# EAGLE library part FT2232HQ (library My_Library_RADAR)
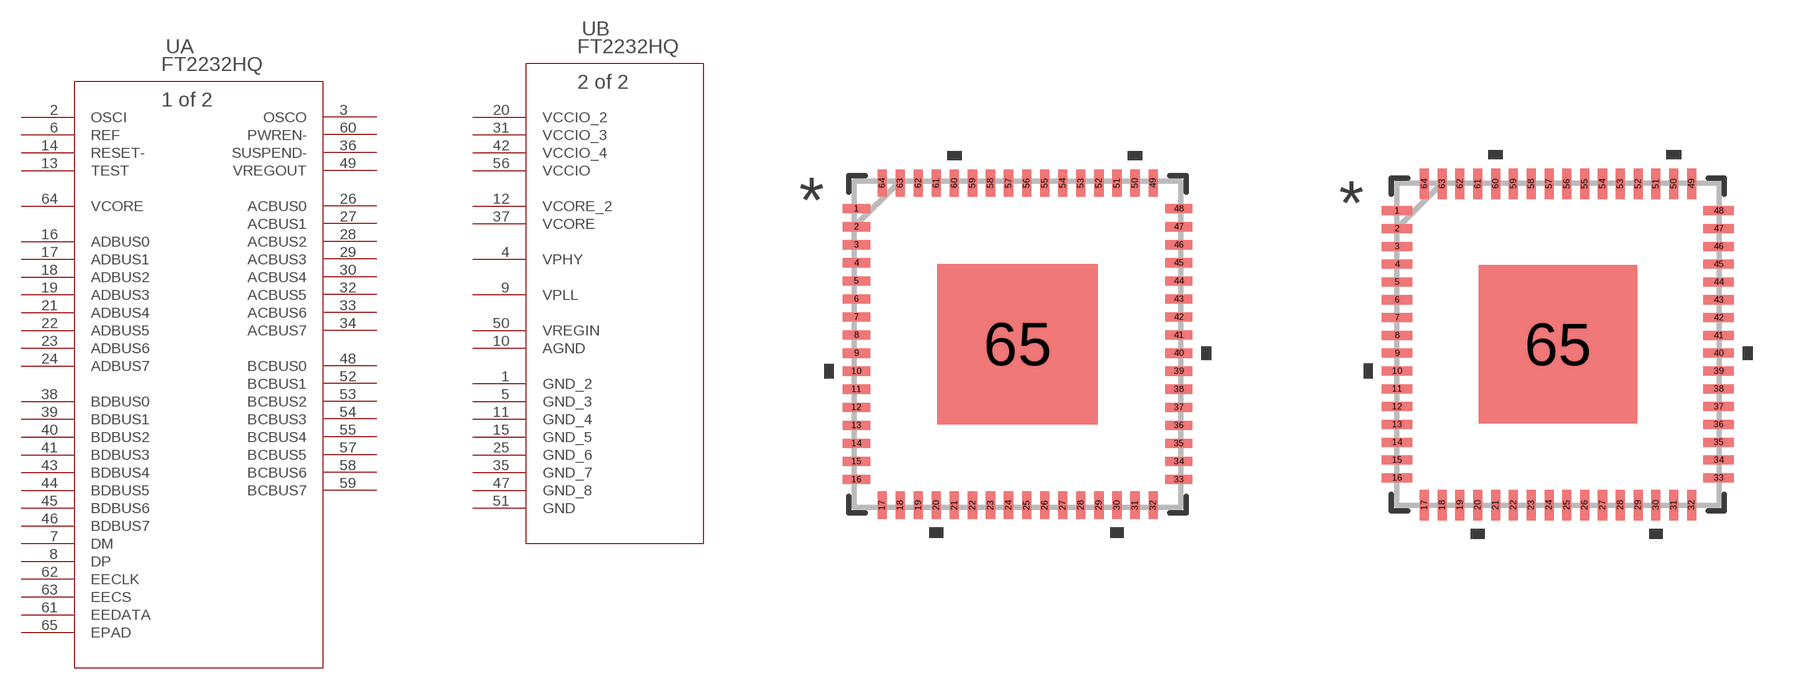
[diagram p9: symbol with the pads of 64QFN_FT2232HQ_FTD; footprints 64QFN_FT2232HQ_FTD, 64QFN_FT2232HQ_FTD-M]

Designator prefix U; gates A=FT2232HQ B=FT2232HQ_A

## FT2232HQ (COPYRIGHT: Copyright (C) 2025 Ultra Librarian. All rights reserved.; MANUFACTURER_PART_NUMBER: FT2232HQ; MFR_NAME: FTDI, Future Technology Devices International Ltd)  [64QFN_FT2232HQ_FTD]
1  B:GND_2  pas
2  A:OSCI  in
3  A:OSCO  out
4  B:VPHY  pwr
5  B:GND_3  pas
6  A:REF  in
7  A:DM
8  A:DP
9  B:VPLL  pwr
10  B:AGND  pas
11  B:GND_4  pas
12  B:VCORE_2  pwr
13  A:TEST  in
14  A:RESET-  in
15  B:GND_5  pas
16  A:ADBUS0
17  A:ADBUS1
18  A:ADBUS2
19  A:ADBUS3
20  B:VCCIO_2  pwr
21  A:ADBUS4
22  A:ADBUS5
23  A:ADBUS6
24  A:ADBUS7
25  B:GND_6  pas
26  A:ACBUS0
27  A:ACBUS1
28  A:ACBUS2
29  A:ACBUS3
30  A:ACBUS4
31  B:VCCIO_3  pwr
32  A:ACBUS5
33  A:ACBUS6
34  A:ACBUS7
35  B:GND_7  pas
36  A:SUSPEND-  out
37  B:VCORE  pwr
38  A:BDBUS0
39  A:BDBUS1
40  A:BDBUS2
41  A:BDBUS3
42  B:VCCIO_4  pwr
43  A:BDBUS4
44  A:BDBUS5
45  A:BDBUS6
46  A:BDBUS7
47  B:GND_8  pas
48  A:BCBUS0
49  A:VREGOUT  pwr
50  B:VREGIN  pwr
51  B:GND  pas
52  A:BCBUS1
53  A:BCBUS2
54  A:BCBUS3
55  A:BCBUS4
56  B:VCCIO  pwr
57  A:BCBUS5
58  A:BCBUS6
59  A:BCBUS7
60  A:PWREN-  out
61  A:EEDATA
62  A:EECLK
63  A:EECS
64  A:VCORE  in
65  A:EPAD  pas

## FT2232HQ64QFN_FT2232HQ_FTD-M (COPYRIGHT: Copyright (C) 2025 Ultra Librarian. All rights reserved.; MANUFACTURER_PART_NUMBER: FT2232HQ; MFR_NAME: FTDI, Future Technology Devices International Ltd)  [64QFN_FT2232HQ_FTD-M]
Pads as for 64QFN_FT2232HQ_FTD

## FT2232HQ64QFN_FT2232HQ_FTD-L (COPYRIGHT: Copyright (C) 2025 Ultra Librarian. All rights reserved.; MANUFACTURER_PART_NUMBER: FT2232HQ; MFR_NAME: FTDI, Future Technology Devices International Ltd)  [64QFN_FT2232HQ_FTD-L]
Pads as for 64QFN_FT2232HQ_FTD

## Footprint 64QFN_FT2232HQ_FTD (pad centres in mm)
smd 0.755 x 0.254: 1 -4.461,3.75; 2 -4.461,3.25; 3 -4.461,2.75; 4 -4.461,2.25; 5 -4.461,1.75; 6 -4.461,1.25; 7 -4.461,0.75; 8 -4.461,0.25; 9 -4.461,-0.25; 10 -4.461,-0.75; 11 -4.461,-1.25; 12 -4.461,-1.75; 13 -4.461,-2.25; 14 -4.461,-2.75; 15 -4.461,-3.25; 16 -4.461,-3.75; 33 4.461,-3.75; 34 4.461,-3.25; 35 4.461,-2.75; 36 4.461,-2.25; 37 4.461,-1.75; 38 4.461,-1.25; 39 4.461,-0.75; 40 4.461,-0.25; 41 4.461,0.25; 42 4.461,0.75; 43 4.461,1.25; 44 4.461,1.75; 45 4.461,2.25; 46 4.461,2.75; 47 4.461,3.25; 48 4.461,3.75
smd 0.254 x 0.755: 17 -3.75,-4.461; 18 -3.25,-4.461; 19 -2.75,-4.461; 20 -2.25,-4.461; 21 -1.75,-4.461; 22 -1.25,-4.461; 23 -0.75,-4.461; 24 -0.25,-4.461; 25 0.25,-4.461; 26 0.75,-4.461; 27 1.25,-4.461; 28 1.75,-4.461; 29 2.25,-4.461; 30 2.75,-4.461; 31 3.25,-4.461; 32 3.75,-4.461; 49 3.75,4.461; 50 3.25,4.461; 51 2.75,4.461; 52 2.25,4.461; 53 1.75,4.461; 54 1.25,4.461; 55 0.75,4.461; 56 0.25,4.461; 57 -0.25,4.461; 58 -0.75,4.461; 59 -1.25,4.461; 60 -1.75,4.461; 61 -2.25,4.461; 62 -2.75,4.461; 63 -3.25,4.461; 64 -3.75,4.461
smd 4.445 x 4.445: 65 0,0

## Footprint 64QFN_FT2232HQ_FTD-M (pad centres in mm)
smd 0.856 x 0.254: 1 -4.512,3.75; 2 -4.512,3.25; 3 -4.512,2.75; 4 -4.512,2.25; 5 -4.512,1.75; 6 -4.512,1.25; 7 -4.512,0.75; 8 -4.512,0.25; 9 -4.512,-0.25; 10 -4.512,-0.75; 11 -4.512,-1.25; 12 -4.512,-1.75; 13 -4.512,-2.25; 14 -4.512,-2.75; 15 -4.512,-3.25; 16 -4.512,-3.75; 33 4.512,-3.75; 34 4.512,-3.25; 35 4.512,-2.75; 36 4.512,-2.25; 37 4.512,-1.75; 38 4.512,-1.25; 39 4.512,-0.75; 40 4.512,-0.25; 41 4.512,0.25; 42 4.512,0.75; 43 4.512,1.25; 44 4.512,1.75; 45 4.512,2.25; 46 4.512,2.75; 47 4.512,3.25; 48 4.512,3.75
smd 0.254 x 0.856: 17 -3.75,-4.512; 18 -3.25,-4.512; 19 -2.75,-4.512; 20 -2.25,-4.512; 21 -1.75,-4.512; 22 -1.25,-4.512; 23 -0.75,-4.512; 24 -0.25,-4.512; 25 0.25,-4.512; 26 0.75,-4.512; 27 1.25,-4.512; 28 1.75,-4.512; 29 2.25,-4.512; 30 2.75,-4.512; 31 3.25,-4.512; 32 3.75,-4.512; 49 3.75,4.512; 50 3.25,4.512; 51 2.75,4.512; 52 2.25,4.512; 53 1.75,4.512; 54 1.25,4.512; 55 0.75,4.512; 56 0.25,4.512; 57 -0.25,4.512; 58 -0.75,4.512; 59 -1.25,4.512; 60 -1.75,4.512; 61 -2.25,4.512; 62 -2.75,4.512; 63 -3.25,4.512; 64 -3.75,4.512
smd 4.445 x 4.445: 65 0,0

## Footprint 64QFN_FT2232HQ_FTD-L (pad centres in mm)
smd 0.653 x 0.254: 1 -4.41,3.75; 2 -4.41,3.25; 3 -4.41,2.75; 4 -4.41,2.25; 5 -4.41,1.75; 6 -4.41,1.25; 7 -4.41,0.75; 8 -4.41,0.25; 9 -4.41,-0.25; 10 -4.41,-0.75; 11 -4.41,-1.25; 12 -4.41,-1.75; 13 -4.41,-2.25; 14 -4.41,-2.75; 15 -4.41,-3.25; 16 -4.41,-3.75; 33 4.41,-3.75; 34 4.41,-3.25; 35 4.41,-2.75; 36 4.41,-2.25; 37 4.41,-1.75; 38 4.41,-1.25; 39 4.41,-0.75; 40 4.41,-0.25; 41 4.41,0.25; 42 4.41,0.75; 43 4.41,1.25; 44 4.41,1.75; 45 4.41,2.25; 46 4.41,2.75; 47 4.41,3.25; 48 4.41,3.75
smd 0.254 x 0.653: 17 -3.75,-4.41; 18 -3.25,-4.41; 19 -2.75,-4.41; 20 -2.25,-4.41; 21 -1.75,-4.41; 22 -1.25,-4.41; 23 -0.75,-4.41; 24 -0.25,-4.41; 25 0.25,-4.41; 26 0.75,-4.41; 27 1.25,-4.41; 28 1.75,-4.41; 29 2.25,-4.41; 30 2.75,-4.41; 31 3.25,-4.41; 32 3.75,-4.41; 49 3.75,4.41; 50 3.25,4.41; 51 2.75,4.41; 52 2.25,4.41; 53 1.75,4.41; 54 1.25,4.41; 55 0.75,4.41; 56 0.25,4.41; 57 -0.25,4.41; 58 -0.75,4.41; 59 -1.25,4.41; 60 -1.75,4.41; 61 -2.25,4.41; 62 -2.75,4.41; 63 -3.25,4.41; 64 -3.75,4.41
smd 4.445 x 4.445: 65 0,0